# Altium schematic symbol library IP5566.SchLib: 1 symbol
Pins are listed as number, name and electrical type; pins without a type are passive.

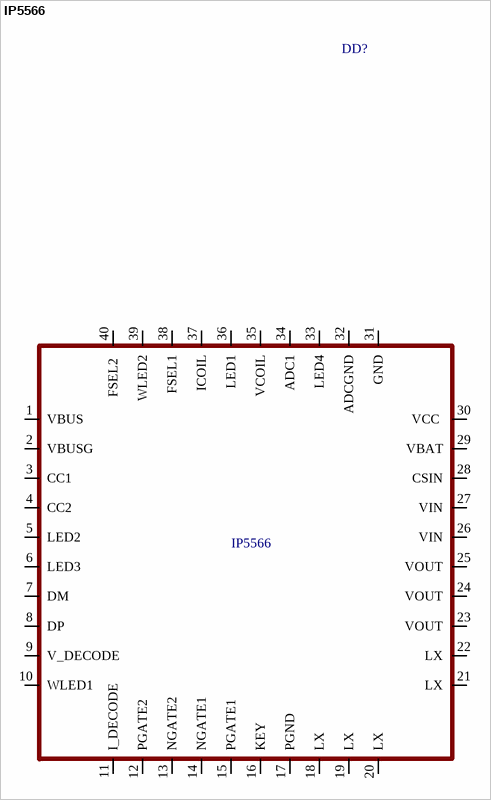
[diagram p0: symbol IP5566]

## IP5566
designator DD?
pins: 1 VBUS, 2 VBUSG , 3 CC1, 4 CC2, 5 LED2, 6 LED3, 7 DM , 8 DP, 9 V_DECODE, 10 WLED1 , 11 I_DECODE, 12 PGATE2, 13 NGATE2, 14 NGATE1, 15 PGATE1, 16 KEY, 17 PGND, 18 LX, 19 LX, 20 LX, 21 LX, 22 LX, 23 VOUT, 24 VOUT, 25 VOUT, 26 VIN, 27 VIN, 28 CSIN, 29 VBAT, 30 VCC , 31 GND, 32 ADCGND, 33 LED4, 34 ADC1, 35 VCOIL, 36 LED1, 37 ICOIL, 38 FSEL1, 39 WLED2, 40 FSEL2 